# EAGLE library part SIM800LMODULE (library SIM800LMODULE)
SIM800L Module
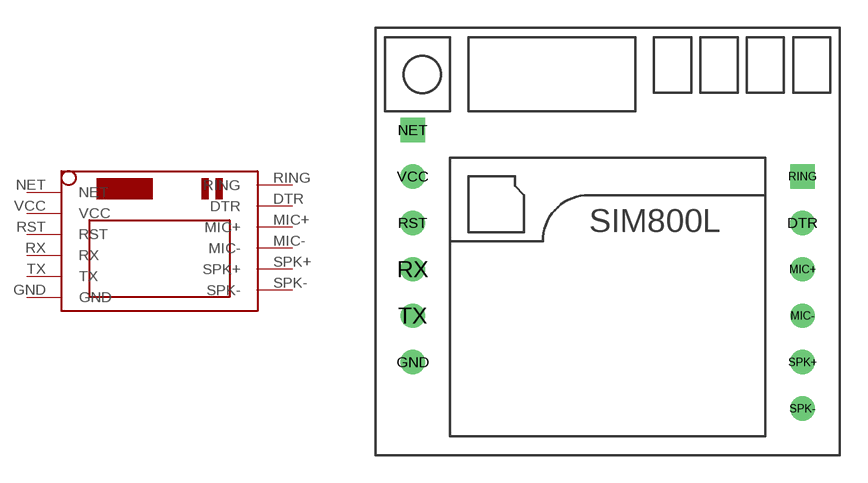
[diagram p0: symbol with the pads of SIM800LMODULE; footprint SIM800LMODULE]

Designator prefix -

## SIM800LMODULE  [SIM800LMODULE]
DTR  DTR
GND  GND
MIC+  MIC+
MIC-  MIC-
NET  NET
RING  RING
RST  RST
RX  RX
SPK+  SPK+
SPK-  SPK-
TX  TX
VCC  VCC

## Footprint SIM800LMODULE (pad centres in mm)
drill 0.8: DTR 10.5,1; GND -10.5,-6.5; MIC+ 10.5,-1.5; MIC- 10.5,-4; RST -10.5,1; RX -10.5,-1.5; SPK+ 10.5,-6.5; SPK- 10.5,-9; TX -10.5,-4; VCC -10.5,3.5
drill 0.8 square: NET -10.5,6; RING 10.5,3.5